# EAGLE library part MAX4528 (library Eagle_CAD_parts)
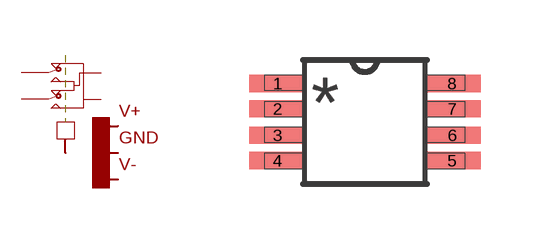
[diagram p8: symbol with the pads of 8-MSOP-C/PTO; footprint 8-MSOP-C/PTO]

Designator prefix U

## MAX4528  [8-MSOP-C/PTO]
1  A
2  B
3  GND
4  IN
5  V-
6  Y
7  X
8  V+

## Footprint 8-MSOP-C/PTO (pad centres in mm)
smd 1.422 x 0.432: 1 -2.184,0.965; 2 -2.184,0.33; 3 -2.184,-0.33; 4 -2.184,-0.965; 5 2.184,-0.965; 6 2.184,-0.33; 7 2.184,0.33; 8 2.184,0.965